# Altium footprint library optoacoplador.PcbLib: 2 footprints
Each footprint in its own frame and in the unit in brackets; x right, y up, seen from the top. Pads: shape width x height; smd on the part's side, far side on the other; paste and mask are expansions set on the pad; w line width, h text height; cw(c..) or ccw(c..) is an arc to the next point about the centre after c.
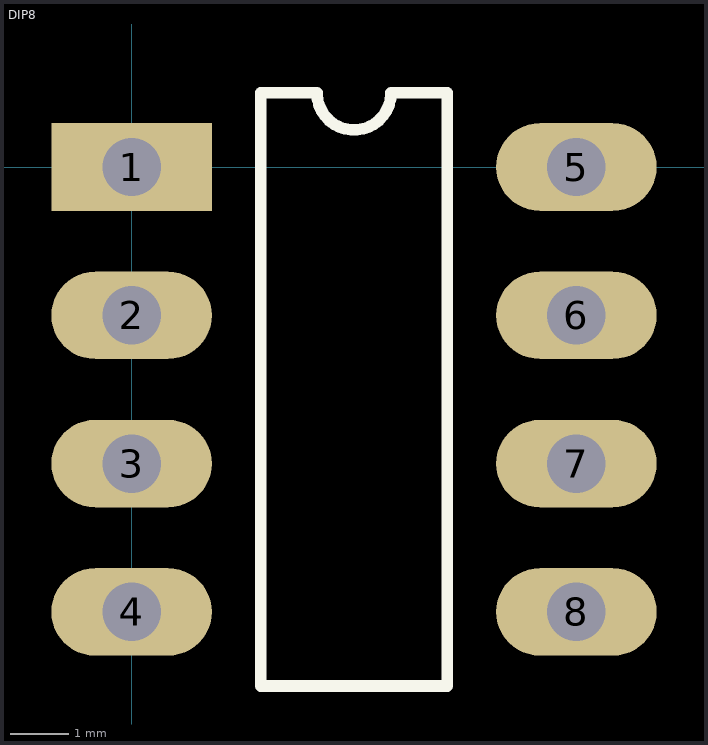
[diagram p0: the footprints below, top view; thin cyan lines are the x and y axes]

## DIP8 [mm]
pads (8):
  rect 2.75x1.5 hole 1: 1(0,0)
  oval 2.75x1.5 hole 1: 2(0,-2.54) 3(0,-5.08) 4(0,-7.62) 5(7.62,0) 6(7.62,-2.54) 7(7.62,-5.08) 8(7.62,-7.62)
Top Overlay:
  lines w0.2: 2.21,-8.89 2.21,1.27 3.175,1.27 ccw(c3.81,1.27) 4.445,1.27 5.41,1.27 5.41,-8.89 2.21,-8.89

## PCBComponent_1 [mm]